# EAGLE library part HDSP-433G (library AWJLEagleLib)
Avago Technologies HDSP-433G
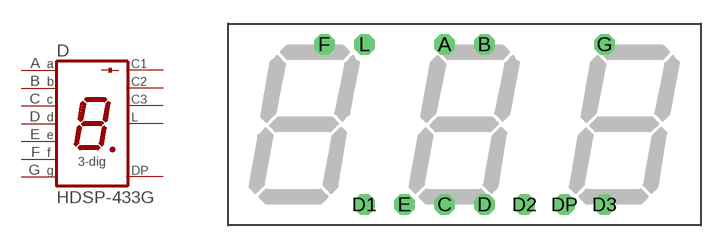
[diagram p1: symbol with the pads of HDSP-433G; footprint HDSP-433G]

Designator prefix D

## HDSP-433G  [HDSP-433G]
A  A  pas
B  B  pas
C  C  pas
D  D  pas
D1  C1  pas
D2  C2  pas
D3  C3  pas
DP  DP  pas
E  E  pas
F  F  pas
G  G  pas
L  P$1  pas

## Footprint HDSP-433G (pad centres in mm)
drill 0.8 octagon: A -1.27,5.08; B 1.27,5.08; C -1.27,-5.08; D 1.27,-5.08; D1 -6.35,-5.08; D2 3.81,-5.08; D3 8.89,-5.08; DP 6.35,-5.08; E -3.81,-5.08; F -8.89,5.08; G 8.89,5.08; L -6.35,5.08